# Altium footprint library Jump_2.0.PcbLib: 39 footprints (part 1 of 3)
Each footprint in its own frame and in the unit in brackets; x right, y up, seen from the top. Pads: shape width x height; smd on the part's side, far side on the other; paste and mask are expansions set on the pad; w line width, h text height; cw(c..) or ccw(c..) is an arc to the next point about the centre after c.
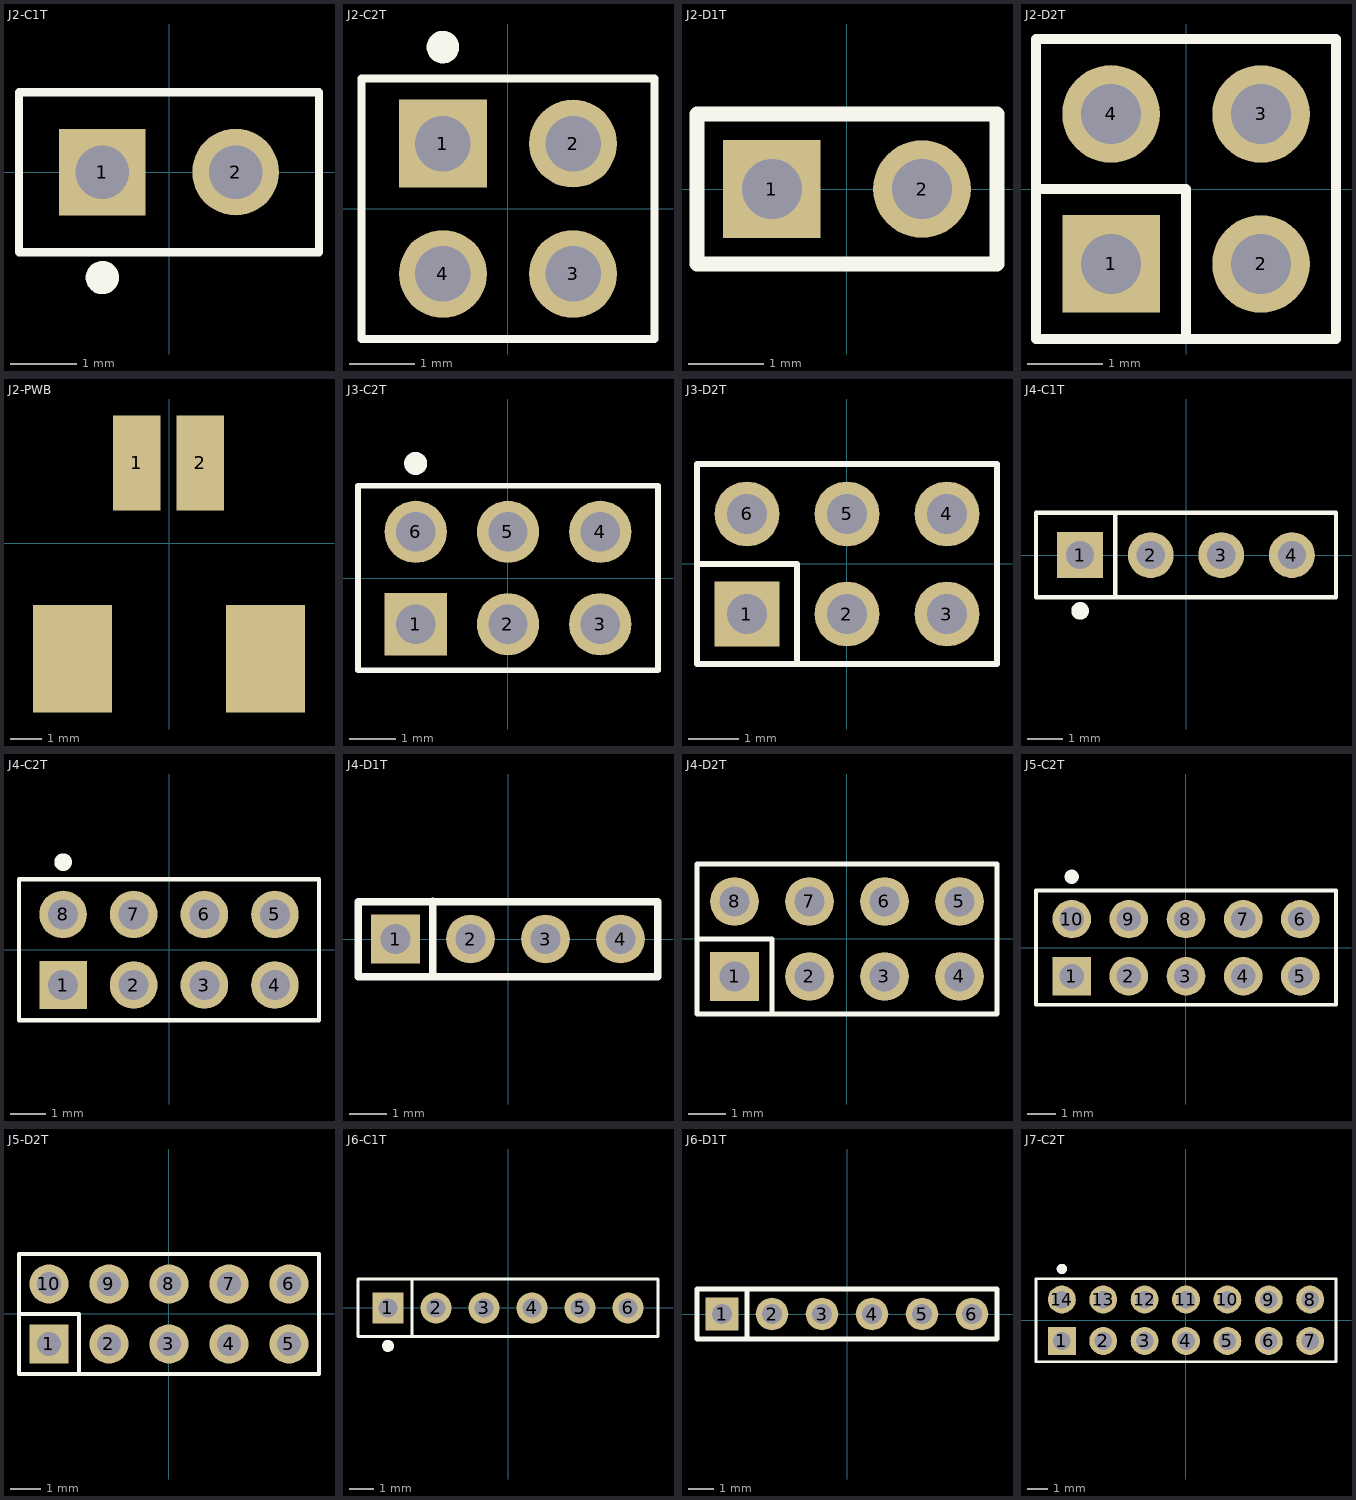
[diagram p0: the footprints below, top view; thin cyan lines are the x and y axes]

## J2-C1T [mm] "2p, 1 row, straight, gold plating"
height 4.3
pads (2):
  rect 1.3x1.3 hole 0.8: 1(-1,0)
  round 1.3 hole 0.8: 2(1,0)
Top Overlay:
  circle w0.25: c-1,-1.582 r0.125
  lines w0.127: -2.25,-1.2 -2.25,1.2 2.25,1.2 2.25,-1.2 -2.25,-1.2
3D body "62000211821.stp": height 4.31, standoff -2.39, extent -2.25,-1.2 2.25,1.2

## J2-C2T [mm] "4 pins, dual row, straight, gold plating"
height 4.3
pads (4):
  rect 1.35x1.35 hole 0.85: 1(-1,1)
  round 1.35 hole 0.85: 2(1,1) 3(1,-1) 4(-1,-1)
Top Overlay:
  circle w0.25: c-1,2.482 r0.125
  lines w0.127: -2.25,-2 -2.25,2 2.25,2 2.25,-2 -2.25,-2
3D body "62000421821.stp": height 4.31, standoff -2.39, extent -2.25,-2 2.25,2

## J2-D1T [mm] "2 pins, 1 row, straight, gold plating"
height 6
pads (2):
  rect 1.3x1.3 hole 0.8: 1(-1,0)
  round 1.3 hole 0.8: 2(1,0)
Top Overlay:
  lines w0.2: -2,-1 2,-1 2,1 -2,1 -2,-1
3D body "62000211121.stp": height 6.01, standoff -2.79, extent -2,-1 2,1

## J2-D2T [mm] "4 pins, dual row, straight, gold plating"
height 6
pads (4):
  rect 1.3x1.3 hole 0.8: 1(-1,-1)
  round 1.3 hole 0.8: 2(1,-1) 3(1,1) 4(-1,1)
Top Overlay:
  lines w0.127: -2,0 0,0 0,-2 ; -2,-2 2,-2 2,2 -2,2 -2,-2
3D body "62000421121.stp": height 6.01, standoff -2.79, extent -2,-2 2,2

## J2-PWB [mm]
pads (4):
  rect 1.5x3 smd: 1(-1.016,2.54) 2(0.984,2.54)
  rect 2.5x3.4 smd: ""(-3.05,-3.66) ""(3.05,-3.66)
3D body "User Library-PH2_0-2PWB.STEP": height 5.5, standoff 0, extent -4,-5.425 4,3.175

## J3-C2T [mm] "6 pins, dual row, straight, gold plating"
height 4.3
pads (6):
  rect 1.35x1.35 hole 0.85: 1(-2,-1)
  round 1.35 hole 0.85: 2(0,-1) 3(2,-1) 4(2,1) 5(0,1) 6(-2,1)
Top Overlay:
  circle w0.25: c-2,2.482 r0.125
  lines w0.127: -3.25,-2 3.25,-2 3.25,2 -3.25,2 -3.25,-2
3D body "62000621821.stp": height 4.31, standoff -2.39, extent -3.25,-2 3.25,2

## J3-D2T [mm] "6 pins, dual row, straight, gold plating"
height 6
pads (6):
  rect 1.3x1.3 hole 0.8: 1(-2,-1)
  round 1.3 hole 0.8: 2(0,-1) 3(2,-1) 4(2,1) 5(0,1) 6(-2,1)
Top Overlay:
  lines w0.127: -3,0 -1,0 -1,-2 ; -3,-2 -3,2 3,2 3,-2 -3,-2
3D body "62000621121.stp": height 6.01, standoff -2.79, extent -3,-2 3,2

## J4-C1T [mm] "4p, 1 row, straight, gold plating"
height 4.3
pads (4):
  rect 1.3x1.3 hole 0.8: 1(-3,0)
  round 1.3 hole 0.8: 2(-1,0) 3(1,0) 4(3,0)
Top Overlay:
  circle w0.25: c-3,-1.582 r0.125
  lines w0.127: -2,-1.2 -2,1.2 ; -4.25,-1.2 4.25,-1.2 4.25,1.2 -4.25,1.2 -4.25,-1.2
3D body "62000411821.stp": height 4.31, standoff -2.39, extent -4.25,-1.2 4.25,1.2

## J4-C2T [mm] "8 pins, dual row, straight, gold plating"
height 4.3
pads (8):
  rect 1.35x1.35 hole 0.85: 1(-3,-1)
  round 1.35 hole 0.85: 2(-1,-1) 3(1,-1) 4(3,-1) 5(3,1) 6(1,1) 7(-1,1) 8(-3,1)
Top Overlay:
  circle w0.25: c-3,2.482 r0.125
  lines w0.127: -4.25,-2 -4.25,2 4.25,2 4.25,-2 -4.25,-2
3D body "62000821821.stp": height 4.31, standoff -2.39, extent -4.25,-2 4.25,2

## J4-D1T [mm] "4 pins, 1 row, straight, gold plating"
height 6
pads (4):
  rect 1.3x1.3 hole 0.8: 1(-3,0)
  round 1.3 hole 0.8: 2(-1,0) 3(1,0) 4(3,0)
Top Overlay:
  lines w0.2: -2,-1 -2,1 ; -4,-1 -4,1 4,1 4,-1 -4,-1
3D body "62000411121.stp": height 6.01, standoff -2.79, extent -4,-1 4,1

## J4-D2T [mm] "8 pins, dual row, straight, gold plating"
height 6
pads (8):
  rect 1.3x1.3 hole 0.8: 1(-3,-1)
  round 1.3 hole 0.8: 2(-1,-1) 3(1,-1) 4(3,-1) 5(3,1) 6(1,1) 7(-1,1) 8(-3,1)
Top Overlay:
  lines w0.127: -4,0 -2,0 -2,-2 ; -4,-2 -4,2 4,2 4,-2 -4,-2
3D body "62000821121.stp": height 6.01, standoff -2.79, extent -4,-2 4,2

## J5-C2T [mm] "10 pins, dual row, straight, gold plating"
height 4.3
pads (10):
  rect 1.35x1.35 hole 0.85: 1(-4,-1)
  round 1.35 hole 0.85: 2(-2,-1) 3(0,-1) 4(2,-1) 5(4,-1) 6(4,1) 7(2,1) 8(0,1) 9(-2,1) 10(-4,1)
Top Overlay:
  circle w0.25: c-4,2.482 r0.125
  lines w0.127: -5.25,-2 5.25,-2 5.25,2 -5.25,2 -5.25,-2
3D body "62001021821.stp": height 4.31, standoff -2.39, extent -5.25,-2 5.25,2

## J5-D2T [mm] "10 pins, dual row, straight, gold plating"
height 6
pads (10):
  rect 1.3x1.3 hole 0.8: 1(-4,-1)
  round 1.3 hole 0.8: 2(-2,-1) 3(0,-1) 4(2,-1) 5(4,-1) 6(4,1) 7(2,1) 8(0,1) 9(-2,1) 10(-4,1)
Top Overlay:
  lines w0.127: -5,0 -3,0 -3,-2 ; -5,-2 -5,2 5,2 5,-2 -5,-2
3D body "62001021121.stp": height 6.01, standoff -2.79, extent -5,-2 5,2

## J6-C1T [mm] "6p, 1 row, straight, gold plating"
height 4.3
pads (6):
  rect 1.3x1.3 hole 0.8: 1(-5,0)
  round 1.3 hole 0.8: 2(-3,0) 3(-1,0) 4(1,0) 5(3,0) 6(5,0)
Top Overlay:
  circle w0.25: c-5,-1.582 r0.125
  lines w0.127: -4,-1.2 -4,1.2 ; -6.25,-1.2 6.25,-1.2 6.25,1.2 -6.25,1.2 -6.25,-1.2
3D body "62000611821.stp": height 4.31, standoff -2.39, extent -6.25,-1.2 6.25,1.2

## J6-D1T [mm] "6 pins, 1 row, straight, gold plating"
height 6
pads (6):
  rect 1.3x1.3 hole 0.8: 1(-5,0)
  round 1.3 hole 0.8: 2(-3,0) 3(-1,0) 4(1,0) 5(3,0) 6(5,0)
Top Overlay:
  lines w0.2: -4,-1 -4,1 ; -6,-1 -6,1 6,1 6,-1 -6,-1
3D body "62000611121.stp": height 6.01, standoff -2.79, extent -6,-1 6,1

## J7-C2T [mm] "14 pins, dual row, straight, gold plating"
height 4.3
pads (14):
  rect 1.35x1.35 hole 0.85: 1(-6,-1)
  round 1.35 hole 0.85: 2(-4,-1) 3(-2,-1) 4(0,-1) 5(2,-1) 6(4,-1) 7(6,-1) 8(6,1) 9(4,1) 10(2,1) 11(0,1) 12(-2,1) 13(-4,1) 14(-6,1)
Top Overlay:
  circle w0.25: c-6,2.482 r0.125
  lines w0.127: -7.25,-2 7.25,-2 7.25,2 -7.25,2 -7.25,-2
3D body "62001421821.stp": height 4.31, standoff -2.39, extent -7.25,-2 7.25,2